# EAGLE library part 6CON_R_ANGLE (library Oded_Hand)
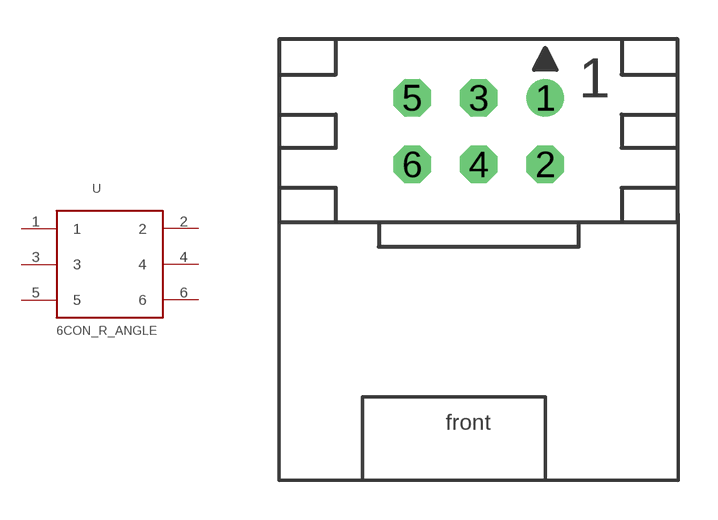
[diagram p3: symbol with the pads of CON6_R_ANGLE; footprint CON6_R_ANGLE]

Designator prefix -

## 6CON_R_ANGLE  [CON6_R_ANGLE]
1  1
2  2
3  3
4  4
5  5
6  6

## Footprint CON6_R_ANGLE (pad centres in mm)
drill 0.914: 1 5.08,7.62
drill 0.914 octagon: 2 5.08,5.08; 3 2.54,7.62; 4 2.54,5.08; 5 0,7.62; 6 0,5.08